# EAGLE library part A4989 (library A4989)
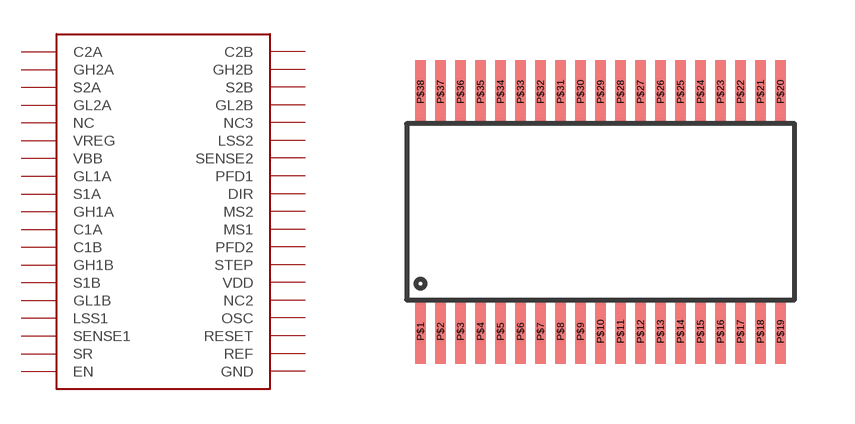
[diagram p0: symbol with the pads of TSSOP38; footprint TSSOP38]

Designator prefix -

## A4989  [TSSOP38]
P$1  C2A
P$2  GH2A
P$3  S2A
P$4  GL2A
P$5  NC
P$6  VREG
P$7  VBB
P$8  GL1A
P$9  S1A
P$10  GH1A
P$11  C1A
P$12  C1B
P$13  GH1B
P$14  S1B
P$15  GL1B
P$16  LSS1
P$17  SENSE1
P$18  SR
P$19  EN
P$20  GND
P$21  REF
P$22  RESET
P$23  OSC
P$24  NC2
P$25  VDD
P$26  STEP
P$27  PFD2
P$28  MS1
P$29  MS2
P$30  DIR
P$31  PFD1
P$32  SENSE2
P$33  LSS2
P$34  NC3
P$35  GL2B
P$36  S2B
P$37  GH2B
P$38  C2B

## Footprint TSSOP38 (pad centres in mm)
smd 0.254 x 1.6: P$1 -4.5,-3; P$2 -4,-3; P$3 -3.5,-3; P$4 -3,-3; P$5 -2.5,-3; P$6 -2,-3; P$7 -1.5,-3; P$8 -1,-3; P$9 -0.5,-3; P$10 0,-3; P$11 0.5,-3; P$12 1,-3; P$13 1.5,-3; P$14 2,-3; P$15 2.5,-3; P$16 3,-3; P$17 3.5,-3; P$18 4,-3; P$19 4.5,-3; P$20 4.5,3; P$21 4,3; P$22 3.5,3; P$23 3,3; P$24 2.5,3; P$25 2,3; P$26 1.5,3; P$27 1,3; P$28 0.5,3; P$29 0,3; P$30 -0.5,3; P$31 -1,3; P$32 -1.5,3; P$33 -2,3; P$34 -2.5,3; P$35 -3,3; P$36 -3.5,3; P$37 -4,3; P$38 -4.5,3